# Altium footprint library PcbLib1.PcbLib: 29 footprints (part 2 of 2)
Each footprint in its own frame and in the unit in brackets; x right, y up, seen from the top. Pads: shape width x height; smd on the part's side, far side on the other; paste and mask are expansions set on the pad; w line width, h text height; cw(c..) or ccw(c..) is an arc to the next point about the centre after c.
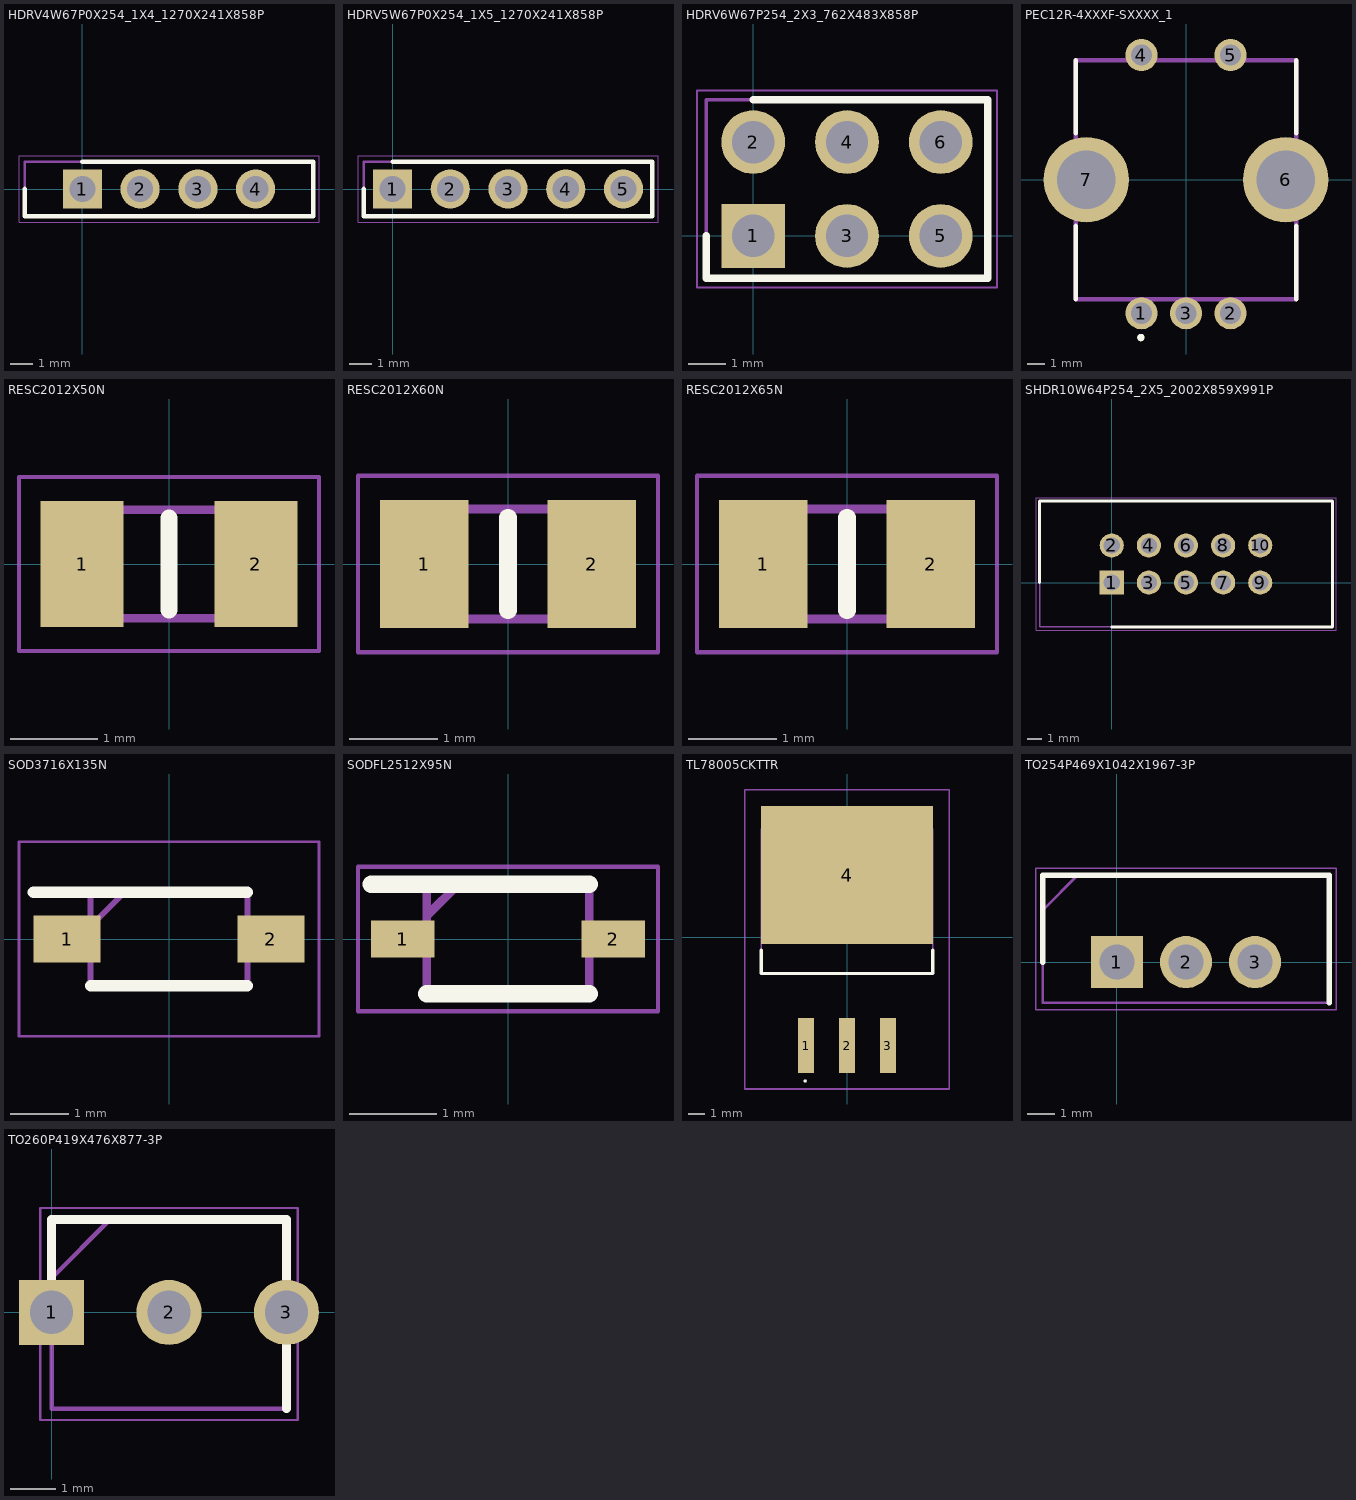
[diagram p1: the footprints below, top view; thin cyan lines are the x and y axes]

## HDRV4W67P0X254_1X4_1270X241X858P [mm]
pads (4):
  rect 1.725x1.725 hole 1.15: 1(0,0)
  round 1.725 hole 1.15: 2(2.54,0) 3(5.08,0) 4(7.62,0)
Top Overlay:
  lines w0.2: -2.54,0 -2.54,-1.205 10.16,-1.205 10.16,1.205 0,1.205
Mechanical 13:
  lines w0.1: -2.54,-1.205 10.16,-1.205 10.16,1.205 -2.54,1.205 -2.54,-1.205
Mechanical 15:
  lines w0.05: -2.79,-1.455 10.41,-1.455 10.41,1.455 -2.79,1.455 -2.79,-1.455
3D body "10129378-904001BLF.stp": height 8.58, standoff -3.3, extent -2.54,-1.205 10.16,1.205

## HDRV5W67P0X254_1X5_1270X241X858P [mm]
pads (5):
  rect 1.725x1.725 hole 1.15: 1(0,0)
  round 1.725 hole 1.15: 2(2.54,0) 3(5.08,0) 4(7.62,0) 5(10.16,0)
Top Overlay:
  lines w0.2: -1.27,0 -1.27,-1.205 11.43,-1.205 11.43,1.205 0,1.205
Mechanical 13:
  lines w0.1: -1.27,-1.205 11.43,-1.205 11.43,1.205 -1.27,1.205 -1.27,-1.205
Mechanical 15:
  lines w0.05: -1.52,-1.455 11.68,-1.455 11.68,1.455 -1.52,1.455 -1.52,-1.455
3D body "10129378-905001BLF.stp": height 8.58, standoff -3.3, extent -1.27,-1.205 11.43,1.205

## HDRV6W67P254_2X3_762X483X858P [mm]
pads (6):
  rect 1.725x1.725 hole 1.15: 1(0,0)
  round 1.725 hole 1.15: 2(0,2.54) 3(2.54,0) 4(2.54,2.54) 5(5.08,0) 6(5.08,2.54)
Top Overlay:
  lines w0.2: -1.27,0 -1.27,-1.145 6.35,-1.145 6.35,3.685 0,3.685
Mechanical 13:
  lines w0.1: -1.27,-1.145 6.35,-1.145 6.35,3.685 -1.27,3.685 -1.27,-1.145
Mechanical 15:
  lines w0.05: -1.52,-1.395 6.6,-1.395 6.6,3.935 -1.52,3.935 -1.52,-1.395
3D body "10129381-906002BLF.stp": height 8.58, standoff -2.54, extent -1.27,-1.145 6.35,3.685

## PEC12R-4XXXF-SXXXX_1 [mm]
pads (7):
  round 1.8 hole 1.2: 1(-2.5,-7.5) 2(2.5,-7.5) 3(0,-7.5) 4(-2.5,7) 5(2.5,7)
  round 4.8 hole 3.28: 6(5.6,0) 7(-5.6,0)
Top Overlay:
  circle w0.254: c-2.533,-8.863 r0.082
  lines w0.254: -6.2,-6.7 -6.2,-2.6 ; -6.2,2.6 -6.2,6.7 ; 6.2,-6.7 6.2,-2.6 ; 6.2,2.6 6.2,6.7
Mechanical 13:
  lines w0.254: -6.2,-6.7 6.2,-6.7 6.2,6.7 -6.2,6.7 -6.2,-6.7
3D body "PEC11R-4225F-S0024.stp": height 31.51, standoff -3.69, extent -7.005,-7.751 6.995,7.149

## RESC2012X50N [mm]
pads (2):
  rect 0.95x1.45 smd: 1(-1,0) 2(1,0)
Top Overlay:
  lines w0.2: 0,-0.525 0,0.525
Mechanical 13:
  lines w0.1: -1.025,-0.625 -1.025,0.625 1.025,0.625 1.025,-0.625 -1.025,-0.625
Mechanical 15:
  lines w0.05: -1.725,-1 -1.725,1 1.725,1 1.725,-1 -1.725,-1
3D body "CRCW08054K70FKEAHP.stp": height 0.5, standoff 0, extent -1.025,-0.625 1.025,0.625

## RESC2012X60N [mm]
pads (2):
  rect 1x1.45 smd: 1(-0.95,0) 2(0.95,0)
Top Overlay:
  lines w0.2: 0,-0.525 0,0.525
Mechanical 13:
  lines w0.1: -1,-0.625 -1,0.625 1,0.625 1,-0.625 -1,-0.625
Mechanical 15:
  lines w0.05: -1.7,-1 -1.7,1 1.7,1 1.7,-1 -1.7,-1
3D body "CR0805-JW-105ELF.stp": height 0.63, standoff -0.63, extent -1,-0.25 1,0.25

## RESC2012X65N [mm]
pads (2):
  rect 1x1.45 smd: 1(-0.95,0) 2(0.95,0)
Top Overlay:
  lines w0.2: 0,-0.525 0,0.525
Mechanical 13:
  lines w0.1: -1,-0.625 -1,0.625 1,0.625 1,-0.625 -1,-0.625
Mechanical 15:
  lines w0.05: -1.7,-1 -1.7,1 1.7,1 1.7,-1 -1.7,-1
3D body "CPF0805B18KE.stp": height 0.65, standoff 0, extent -1,-0.625 1,0.625

## SHDR10W64P254_2X5_2002X859X991P [mm]
pads (10):
  rect 1.65x1.65 hole 1.1: 1(0,0)
  round 1.65 hole 1.1: 2(0,2.54) 3(2.54,0) 4(2.54,2.54) 5(5.08,0) 6(5.08,2.54) 7(7.62,0) 8(7.62,2.54) 9(10.16,0) 10(10.16,2.54)
Top Overlay:
  lines w0.2: -4.93,0 -4.93,5.565 15.09,5.565 15.09,-3.025 0,-3.025
Mechanical 13:
  lines w0.1: -4.93,-3.025 15.09,-3.025 15.09,5.565 -4.93,5.565 -4.93,-3.025
Mechanical 15:
  lines w0.05: -5.18,-3.275 15.34,-3.275 15.34,5.815 -5.18,5.815 -5.18,-3.275
3D body "N2510-6002RB.stp": height 9.91, standoff -2.84, extent -4.93,-3.025 15.09,5.565

## SOD3716X135N [mm]
pads (2):
  rect 1.15x0.8 smd: 1(-1.75,0) 2(1.75,0)
Top Overlay:
  lines w0.2: -2.325,0.8 1.345,0.8 ; -1.345,-0.8 1.345,-0.8
Mechanical 13:
  lines w0.1: -1.345,0.225 -0.77,0.8 ; -1.345,-0.8 -1.345,0.8 1.345,0.8 1.345,-0.8 -1.345,-0.8
Mechanical 15:
  lines w0.05: -2.575,-1.67 -2.575,1.67 2.575,1.67 2.575,-1.67 -2.575,-1.67
3D body "SZMMSZ5231BT1G.stp": height 1.35, standoff 0, extent -1.855,-0.8 1.855,0.8

## SODFL2512X95N [mm]
pads (2):
  rect 0.72x0.42 smd: 1(-1.2,0) 2(1.2,0)
Top Overlay:
  lines w0.2: -1.56,0.625 0.925,0.625 ; -0.925,-0.625 0.925,-0.625
Mechanical 13:
  lines w0.1: -0.925,0.265 -0.565,0.625 ; -0.925,-0.625 0.925,-0.625 0.925,0.625 -0.925,0.625 -0.925,-0.625
Mechanical 15:
  lines w0.05: -1.71,-0.825 1.71,-0.825 1.71,0.825 -1.71,0.825 -1.71,-0.825
3D body "1N4148WS_R1_00001.stp": height 0.95, standoff 0, extent -1.25,-0.625 1.25,0.625

## TL78005CKTTR [mm]
pads (4):
  rect 1x3.4 smd: 1(-2.54,-6.745) 2(0,-6.745) 3(2.54,-6.745)
  rect 10.7x8.6 smd: 4(0,3.855)
Top Overlay:
  lines w0.1: -2.6,-9 ccw(c-2.6,-8.95) -2.6,-8.9 ccw(c-2.6,-8.95) -2.6,-9
  lines w0.2: -5.33,-0.8 -5.33,-2.27 5.33,-2.27 5.33,-0.8
Mechanical 13:
  lines w0.1: -5.33,-2.27 5.33,-2.27 5.33,6.745 -5.33,6.745 -5.33,-2.27
Mechanical 15:
  lines w0.1: -6.35,-9.445 6.35,-9.445 6.35,9.155 -6.35,9.155 -6.35,-9.445

## TO254P469X1042X1967-3P [mm]
pads (3):
  rect 1.92x1.92 hole 1.28: 1(0,0)
  round 1.92 hole 1.28: 2(2.54,0) 3(5.08,0)
Top Overlay:
  lines w0.2: -2.73,0 -2.73,3.195 7.81,3.195 7.81,-1.495
Mechanical 13:
  lines w0.1: -2.73,1.925 -1.46,3.195 ; -2.73,-1.495 -2.73,3.195 7.81,3.195 7.81,-1.495 -2.73,-1.495
Mechanical 15:
  lines w0.05: -2.98,-1.745 -2.98,3.445 8.06,3.445 8.06,-1.745 -2.98,-1.745
3D body "IRF9Z34NPBF.stp": height 18.84, standoff -17.51, extent -2.668,-1.495 7.748,3.195

## TO260P419X476X877-3P [mm]
pads (3):
  rect 1.44x1.44 hole 0.96: 1(0,0)
  round 1.44 hole 0.96: 2(2.6,0) 3(5.2,0)
Top Overlay:
  lines w0.2: 0,0 0,2.06 5.2,2.06 5.2,-2.13
Mechanical 13:
  lines w0.1: 0,0.76 1.3,2.06 ; 0,-2.13 0,2.06 5.2,2.06 5.2,-2.13 0,-2.13
Mechanical 15:
  lines w0.05: -0.25,-2.38 -0.25,2.31 5.45,2.31 5.45,-2.38 -0.25,-2.38
3D body "BC557BTA.stp": height 7.82, standoff -9.65, extent -0.345,-2.13 5.545,2.06